# Altium schematic symbol library DIA_2_COMMON_ANODE.SchLib: 1 symbol
Pins are listed as number, name and electrical type; pins without a type are passive.

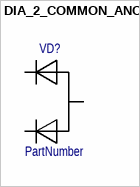
[diagram p0: symbol DIA_2_COMMON_ANODE]

## DIA_2_COMMON_ANODE
designator VD?  (value not drawn)
Диодная сборак из двух диодов с общим анодом; PartNumber: PartNumber
pins: 1, 2, 3